# Altium footprint library SULLINS_SBH11-PBPC-D05-ST.PcbLib: 1 footprints
Each footprint in its own frame and in the unit in brackets; x right, y up, seen from the top. Pads: shape width x height; smd on the part's side, far side on the other; paste and mask are expansions set on the pad; w line width, h text height; cw(c..) or ccw(c..) is an arc to the next point about the centre after c.
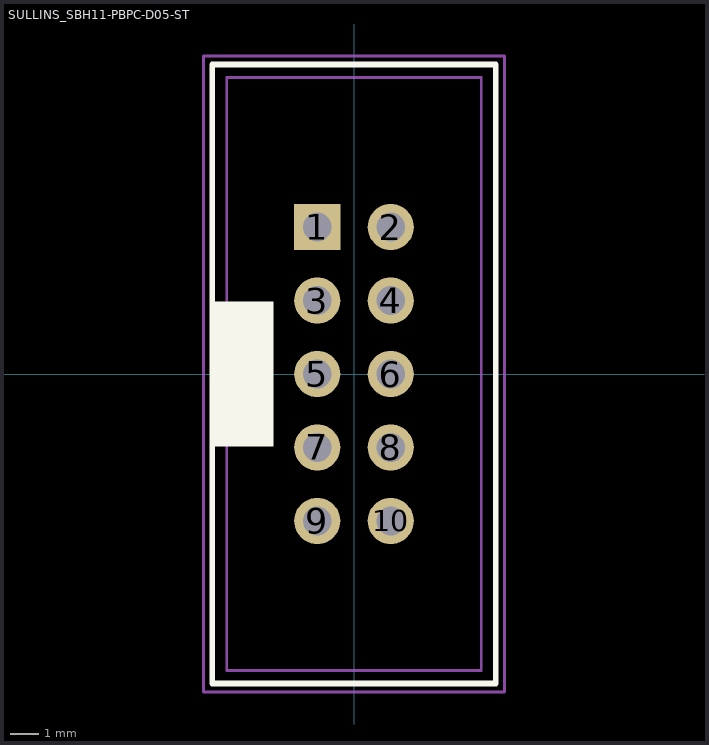
[diagram p0: the footprint, top view; thin cyan lines are the x and y axes]

## SULLINS_SBH11-PBPC-D05-ST [mm]
pads (10):
  rect 1.6x1.6 hole 1: 1(-1.27,5.08)
  round 1.6 hole 1: 2(1.27,5.08) 3(-1.27,2.54) 4(1.27,2.54) 5(-1.27,0) 6(1.27,0) 7(-1.27,-2.54) 8(1.27,-2.54) 9(-1.27,-5.08) 10(1.27,-5.08)
Top Overlay:
  region: -4.9,2.5 -2.8,2.5 -2.8,-2.5 -4.9,-2.5
  lines w0.2: -4.9,-10.7 4.9,-10.7 4.9,10.7 -4.9,10.7 -4.9,-10.7
Mechanical 13:
  lines w0.1: -4.4,-2.3 -3,-2.3 -3,2.3 -4.4,2.3 ; -4.4,-10.25 -4.4,10.25 4.4,10.25 4.4,-10.25 -4.4,-10.25
Mechanical 15:
  lines w0.1: -5.2,-11 -5.2,11 5.2,11 5.2,-11 -5.2,-11
3D body: height 9.1, standoff -3.3, extent -4.4,-10.123 4.41,10.077